# Altium schematic symbol library 4PINXT.SchLib: 1 symbol
Pins are listed as number, name and electrical type; pins without a type are passive.

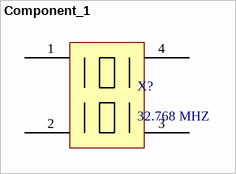
[diagram p0: symbol Component_1]

## Component_1
designator X?, comment 32.768 MHZ
pins: 1, 2, 3, 4